# EAGLE library part 53048-0810 (library 53048-0810)
8CKT R/A WAFER ASSY ROHS COMPLIANT: YES Source: Datasheet <https://www.molex.com/pdm_docs/sd/530480810_sd.pdf>
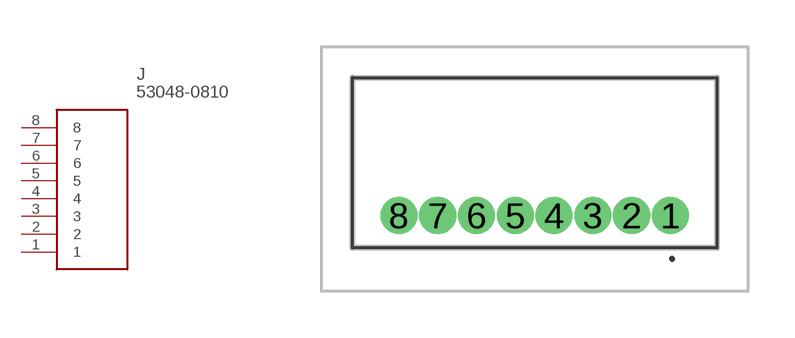
[diagram p0: symbol with the pads of 530480810; footprint 530480810]

Designator prefix J

## 53048-0810 (Description: 8CKT R/A WAFER ASSY ROHS COMPLIANT: YES; Height: 3.7mm; Manufacturer_Name: Molex; Manufacturer_Part_Number: 53048-0810)  [530480810]
1  1
2  2
3  3
4  4
5  5
6  6
7  7
8  8

## Footprint 530480810 (pad centres in mm)
53048-0810-1
drill 0.69 pad 1: 1 0,0; 2 -1.25,0; 3 -2.5,0; 4 -3.75,0; 5 -5,0; 6 -6.25,0; 7 -7.5,0; 8 -8.75,0